# Altium integrated library TI Data Converters Analog to Digital Converter.IntLib: 2197 symbols (part 76 of 168)
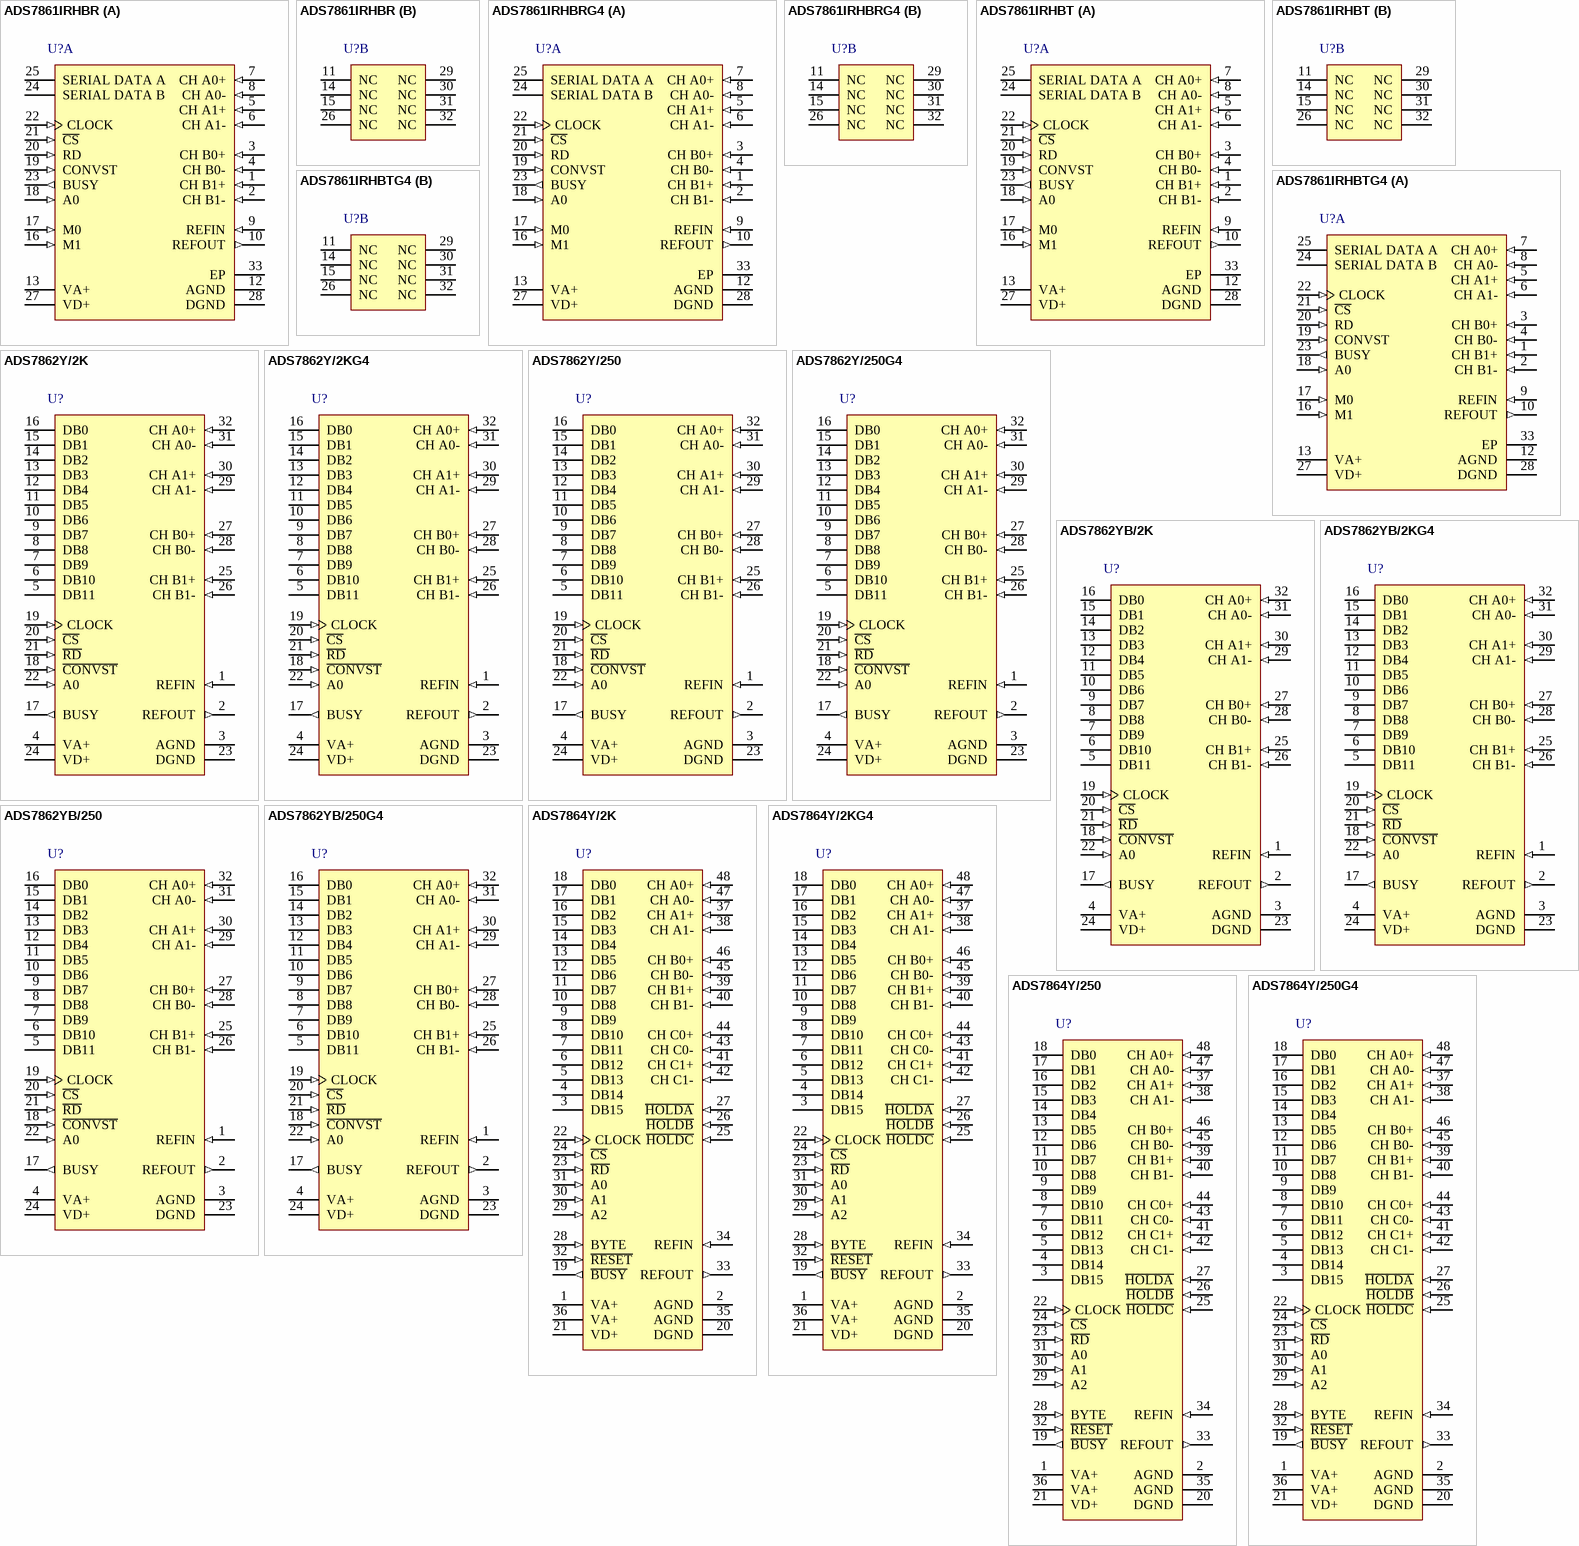
[diagram p201: symbols ADS7861IRHBR to ADS7864Y/250G4]

## ADS7861IRHBT
designator U?
Dual, 500 kHz, 12-Bit, 4 Channel, Simultaneous Sampling ADC, -40 to 125 degC, 32-pin QFN (RHB32), Green (RoHS & no Sb/Br); Manufacturer: Texas Instruments; PartNumber: ADS7861IRHBT; # Input Channels: 4; Analog Voltage AV/DD(Max)(V): 5.25; Analog Voltage AV/DD(Min)(V): 4.75; Architecture: SAR; INL(Max)(+/-LSB): 2; Interface: Serial SPI; Resolution(Bits): 12; Sample Rate (max)(SPS): 500k; SFDR(dB): 71; SINAD(dB): 70; SubFamily: Precision ADC (<=10MSPS); DatasheetVersion: SBAS110D; PackageVersion: 4204326/D, 06/2011; PackageReference: RHB32-3450X3450TP; PackageDescription: 32-Pin Plastic Flat Pack, Body 5 x 5 mm, Pitch 0.5 mm; Supplier 1: Digi-Key; Supplier Part Number 1: ADS7861EB/2K5G4-ND; Supplier 2: Newark; Supplier Part Number 2: 73K7090; Supplier 3: Mouser; Supplier Part Number 3: 595-ADS7861EB/2K5G4; Digital Supply(Max)(V): 5.25; Digital Supply(Min)(V): 4.75; Eco-Plan: Green (RoHS & no Sb/Br); Mounting Technology: Surface Mount; Code_JEDEC: MO-220; ComponentLink1Description: Manufacturer URL; ComponentLink1URL: http://www.ti.com/; ComponentLink2Description: Datasheet; ComponentLink2URL: http://www.ti.com/general/docs/lit/getliterature.tsp?genericPartNumber=ADS7861&fileType=pdf; ComponentLink3Description: Package Specification; ComponentLink3URL: http://www.ti.com/lit/ml/mpqf130c/mpqf130c.pdf
footprint TI-RHB32-3450X3450TP_V (QFN, 32-Leads, Body 5x5mm, Pitch 0.5mm, Thermal Pad 3.45x3.45mm)
part A pins: 1 CH B1+ (in) "Noninverting Input Channel B1", 2 CH B1- (in) "Inverting Input Channel B1", 3 CH B0+ (in) "Noninverting Input Channel B0", 4 CH B0- (in) "Inverting Input Channel B0", 5 CH A1+ (in) "Noninverting Input Channel A1", 6 CH A1- (in) "Inverting Input Channel A1", 7 CH A0+ (in) "Noninverting Input Channel A0", 8 CH A0- (in) "Inverting Input Channel A0", 9 REFIN (in) "Reference Input", 10 REFOUT (out) "2.5V Reference Output", 12 AGND (power) "Analog Ground. Connect directly to digital ground (pin 1).", 13 VA+ (power) "Analog Power Supply, +5VDC. Decouple to analog ground with a 0.1uF ceramic capacitor and a 0.1uF tantalum capacitor.", 16 M1 (in) "Selects between the Serial Outputs. When M1 is LOW, both Serial Output A and Serial Output B are selected for data transfer. When M1 is HIGH, Serial output A is configured for both Channel A data and Channel B data; Serial (See Datasheet)", 17 M0 (in) "Selects between two-channel and four-channel operation. When M0 is LOW, two-channel operation is selected and operates in conjunction with A0. When A0 is HIGH, Channel A1 and Channel B1 are being converted. When A0 is LOW, (See Datasheet)", 18 A0 (in) "A0 operates in conjunction with M0. With M0 LOW and A0 HIGH, Channel A1 and Channel B1 are converted. With M0 LOW and A0 LOW, Channel A0 and Channel B0 are converted.", 19 CONVST (in) "Convert Start. When CONVST switches from LOW to HIGH, the device switches from the sample to hold mode, independent of the status of the external clock.", 20 RD (in) "Synchronization Pulse for the Serial Output.", 21 ~{CS} (in) "Chip Select. When LOW, the Serial Output A and Serial Output B outputs are active; when HIGH, the serial outputs are tri-stated.", 22 CLOCK (in) "An external CMOS-compatible clock can be applied to the CLOCK input to synchronize the conversion process to an external source. The CLOCK pin controls the sampling rate by the equation: CLOCK = 16 • fSAMPLE.", 23 BUSY (out) "BUSY goes HIGH during a conversion and returns LOW after the third LSB has been transmitted on either the Serial A or Serial B output pin.", 24 SERIAL DATA B (hiz) "The Serial Output data word is comprised of channel information and 12 bits of data. In operation, data is valid on the falling edge of DCLOCK for 16 edges after the rising edge of RD.", 25 SERIAL DATA A (hiz) "The Serial Output data word is comprised of channel information and 12 bits of data. In operation, data is valid on the falling edge of DCLOCK for 16 edges after the rising edge of RD. When M1 is HIGH, both Channel A data (See Datasheet)", 27 VD+ (power) "Digital Power Supply, +5VDC. Connect directly to pin 13. Must be =< +VA.", 28 DGND (power) "Digital I/O Ground. Connect directly to analog ground (pin 12).", 33 EP (power) "The thermal pad is internally connected to the substrate. This pad can be connected to the analog ground or left floating. Keep the thermal pad separate from the digital ground, if possible."
part B pins: 11 NC "Not Connected", 14 NC "Not Connected", 15 NC "Not Connected", 26 NC "Not Connected", 29 NC "Not Connected", 30 NC "Not Connected", 31 NC "Not Connected", 32 NC "Not Connected"

## ADS7861IRHBTG4
designator U?
Dual, 500 kHz, 12-Bit, 4 Channel, Simultaneous Sampling ADC, -40 to 125 degC, 32-pin QFN (RHB32), Green (RoHS & no Sb/Br); Manufacturer: Texas Instruments; PartNumber: ADS7861IRHBTG4; # Input Channels: 4; Analog Voltage AV/DD(Max)(V): 5.25; Analog Voltage AV/DD(Min)(V): 4.75; Architecture: SAR; INL(Max)(+/-LSB): 2; Interface: Serial SPI; Resolution(Bits): 12; Sample Rate (max)(SPS): 500k; SFDR(dB): 71; SINAD(dB): 70; SubFamily: Precision ADC (<=10MSPS); DatasheetVersion: SBAS110D; PackageVersion: 4204326/D, 06/2011; PackageReference: RHB32-3450X3450TP; PackageDescription: 32-Pin Plastic Flat Pack, Body 5 x 5 mm, Pitch 0.5 mm; Supplier 1: Digi-Key; Supplier Part Number 1: ADS7861EBG4-ND; Supplier 2: Newark; Supplier Part Number 2: 85K0084; Supplier 3: Mouser; Supplier Part Number 3: 595-ADS7861EBG4; Digital Supply(Max)(V): 5.25; Digital Supply(Min)(V): 4.75; Eco-Plan: Green (RoHS & no Sb/Br); Mounting Technology: Surface Mount; Code_JEDEC: MO-220; ComponentLink1Description: Manufacturer URL; ComponentLink1URL: http://www.ti.com/; ComponentLink2Description: Datasheet; ComponentLink2URL: http://www.ti.com/general/docs/lit/getliterature.tsp?genericPartNumber=ADS7861&fileType=pdf; ComponentLink3Description: Package Specification; ComponentLink3URL: http://www.ti.com/lit/ml/mpqf130c/mpqf130c.pdf
footprint TI-RHB32-3450X3450TP_V (QFN, 32-Leads, Body 5x5mm, Pitch 0.5mm, Thermal Pad 3.45x3.45mm)
part A pins: 1 CH B1+ (in) "Noninverting Input Channel B1", 2 CH B1- (in) "Inverting Input Channel B1", 3 CH B0+ (in) "Noninverting Input Channel B0", 4 CH B0- (in) "Inverting Input Channel B0", 5 CH A1+ (in) "Noninverting Input Channel A1", 6 CH A1- (in) "Inverting Input Channel A1", 7 CH A0+ (in) "Noninverting Input Channel A0", 8 CH A0- (in) "Inverting Input Channel A0", 9 REFIN (in) "Reference Input", 10 REFOUT (out) "2.5V Reference Output", 12 AGND (power) "Analog Ground. Connect directly to digital ground (pin 1).", 13 VA+ (power) "Analog Power Supply, +5VDC. Decouple to analog ground with a 0.1uF ceramic capacitor and a 0.1uF tantalum capacitor.", 16 M1 (in) "Selects between the Serial Outputs. When M1 is LOW, both Serial Output A and Serial Output B are selected for data transfer. When M1 is HIGH, Serial output A is configured for both Channel A data and Channel B data; Serial (See Datasheet)", 17 M0 (in) "Selects between two-channel and four-channel operation. When M0 is LOW, two-channel operation is selected and operates in conjunction with A0. When A0 is HIGH, Channel A1 and Channel B1 are being converted. When A0 is LOW, (See Datasheet)", 18 A0 (in) "A0 operates in conjunction with M0. With M0 LOW and A0 HIGH, Channel A1 and Channel B1 are converted. With M0 LOW and A0 LOW, Channel A0 and Channel B0 are converted.", 19 CONVST (in) "Convert Start. When CONVST switches from LOW to HIGH, the device switches from the sample to hold mode, independent of the status of the external clock.", 20 RD (in) "Synchronization Pulse for the Serial Output.", 21 ~{CS} (in) "Chip Select. When LOW, the Serial Output A and Serial Output B outputs are active; when HIGH, the serial outputs are tri-stated.", 22 CLOCK (in) "An external CMOS-compatible clock can be applied to the CLOCK input to synchronize the conversion process to an external source. The CLOCK pin controls the sampling rate by the equation: CLOCK = 16 • fSAMPLE.", 23 BUSY (out) "BUSY goes HIGH during a conversion and returns LOW after the third LSB has been transmitted on either the Serial A or Serial B output pin.", 24 SERIAL DATA B (hiz) "The Serial Output data word is comprised of channel information and 12 bits of data. In operation, data is valid on the falling edge of DCLOCK for 16 edges after the rising edge of RD.", 25 SERIAL DATA A (hiz) "The Serial Output data word is comprised of channel information and 12 bits of data. In operation, data is valid on the falling edge of DCLOCK for 16 edges after the rising edge of RD. When M1 is HIGH, both Channel A data (See Datasheet)", 27 VD+ (power) "Digital Power Supply, +5VDC. Connect directly to pin 13. Must be =< +VA.", 28 DGND (power) "Digital I/O Ground. Connect directly to analog ground (pin 12).", 33 EP (power) "The thermal pad is internally connected to the substrate. This pad can be connected to the analog ground or left floating. Keep the thermal pad separate from the digital ground, if possible."
part B pins: 11 NC "Not Connected", 14 NC "Not Connected", 15 NC "Not Connected", 26 NC "Not Connected", 29 NC "Not Connected", 30 NC "Not Connected", 31 NC "Not Connected", 32 NC "Not Connected"

## ADS7862Y/2K
designator U?
Dual, 500 kHz, 12-Bit, 4-Channel Simultaneous Sampling ADC, -40 to 85 degC, 32-pin QFP (PBS32), Green (RoHS & no Sb/Br); Manufacturer: Texas Instruments; PartNumber: ADS7862Y/2K; # Input Channels: 4; Analog Voltage AV/DD(Max)(V): 5.25; Analog Voltage AV/DD(Min)(V): 4.75; Architecture: SAR; INL(Max)(+/-LSB): 2; Interface: Parallel CMOS; Resolution(Bits): 12; Sample Rate (max)(SPS): 500K; SFDR(dB): 78; SINAD(dB): 71; SubFamily: Precision ADC (<=10MSPS); DatasheetVersion: SBAS101B; PackageVersion: 4087735/B, 07/2005; PackageReference: PBS32; PackageDescription: 32-Pin Plastic Flat Pack, Body 5 X 5 mm, Pitch 0.5 mm; Supplier 1: Digi-Key; Supplier Part Number 1: ADS7861EG4-ND; Supplier 2: Mouser; Supplier Part Number 2: 595-ADS7861EG4; Digital Supply(Max)(V): 5.25; Digital Supply(Min)(V): 4.75; Eco-Plan: Green (RoHS & no Sb/Br); SNR(dB): 71; Mounting Technology: Surface Mount; Code_JEDEC: MS-026; ComponentLink1Description: Manufacturer URL; ComponentLink1URL: http://www.ti.com/; ComponentLink2Description: Datasheet; ComponentLink2URL: http://www.ti.com/general/docs/lit/getliterature.tsp?genericPartNumber=ADS7862&fileType=pdf; ComponentLink3Description: Package Specification; ComponentLink3URL: http://www.ti.com/lit/ml/mpqf027a/mpqf027a.pdf
footprint TI-PBS32_N (QFP, 32-Leads, Body 5x5mm, Pitch 0.5mm, IPC Medium Density)
footprint TI-PBS32_L (QFP, 32-Leads, Body 5x5mm, Pitch 0.5mm, IPC High Density)
footprint TI-PBS32_M (QFP, 32-Leads, Body 5x5mm, Pitch 0.5mm, IPC Low Density)
pins: 1 REFIN (in) "Reference Input", 2 REFOUT (out) "+2.5V Reference Output. Connect directly to REFIN (pin 1) when using internal reference.", 3 AGND (power) "Analog Ground", 4 VA+ (power) "Analog Power Supply, +5VDC. Connect directly to digital power supply (pin 24). Decouple to analog ground with a 0.1uF ceramic capacitor and a 10uF tantalum capacitor.", 5 DB11 (hiz) "Data Bit 11, MSB", 6 DB10 (hiz) "Data Bit 10", 7 DB9 (hiz) "Data Bit 9", 8 DB8 (hiz) "Data Bit 8", 9 DB7 (hiz) "Data Bit 7", 10 DB6 (hiz) "Data Bit 6", 11 DB5 (hiz) "Data Bit 5", 12 DB4 (hiz) "Data Bit 4", 13 DB3 (hiz) "Data Bit 3", 14 DB2 (hiz) "Data Bit 2", 15 DB1 (hiz) "Data Bit 1", 16 DB0 (hiz) "Data Bit 0, LSB", 17 BUSY (out) "HIGH when a conversion is in progress.", 18 ~{CONVST} (in) "Convert Start", 19 CLOCK (in) "An external CMOS-compatible clock can be applied to the CLOCK input to synchronize the conversion process to an external source. The CLOCK pin controls the sampling rate by the equation: CLOCK 16 X fSAMPLE.", 20 ~{CS} (in) "Chip Select", 21 ~{RD} (in) "Synchronization pulse for the parallel output. During a Read operation, the first falling edge selects the A register and the second edge selects the B register, A0, then controls whether input 0 or input 1 is read.", 22 A0 (in) "On the falling edge of Convert Start, when A0 is LOW Channel A0 and Channel B0 are converted and when it is HIGH, Channel A1 and Channel B1 are converted. During a Read operation, the first falling edge selects the A (See Datasheet)", 23 DGND (power) "Digital Ground. Connect directly to analog ground (pin 3).", 24 VD+ (power) "Digital Power Supply, +5VDC", 25 CH B1+ (in) "Non-Inverting Input Channel B1", 26 CH B1- (in) "Inverting Input Channel B1", 27 CH B0+ (in) "Non-Inverting Input Channel B0", 28 CH B0- (in) "Inverting Input Channel B0", 29 CH A1- (in) "Inverting Input Channel A1", 30 CH A1+ (in) "Non-Inverting Input Channel A1", 31 CH A0- (in) "Inverting Input Channel A0", 32 CH A0+ (in) "Non-Inverting Input Channel A0"

## ADS7862Y/2KG4
designator U?
Dual, 500 kHz, 12-Bit, 4-Channel Simultaneous Sampling ADC, -40 to 85 degC, 32-pin QFP (PBS32), Green (RoHS & no Sb/Br); Manufacturer: Texas Instruments; PartNumber: ADS7862Y/2KG4; # Input Channels: 4; Analog Voltage AV/DD(Max)(V): 5.25; Analog Voltage AV/DD(Min)(V): 4.75; Architecture: SAR; INL(Max)(+/-LSB): 2; Interface: Parallel CMOS; Resolution(Bits): 12; Sample Rate (max)(SPS): 500K; SFDR(dB): 78; SINAD(dB): 71; SubFamily: Precision ADC (<=10MSPS); DatasheetVersion: SBAS101B; PackageVersion: 4087735/B, 07/2005; PackageReference: PBS32; PackageDescription: 32-Pin Plastic Flat Pack, Body 5 X 5 mm, Pitch 0.5 mm; Supplier 1: Digi-Key; Supplier Part Number 1: ADS7861IBRHBR-ND; Supplier 2: Mouser; Supplier Part Number 2: 595-ADS7861IBRHBR; Digital Supply(Max)(V): 5.25; Digital Supply(Min)(V): 4.75; Eco-Plan: Green (RoHS & no Sb/Br); SNR(dB): 71; Mounting Technology: Surface Mount; Code_JEDEC: MS-026; ComponentLink1Description: Manufacturer URL; ComponentLink1URL: http://www.ti.com/; ComponentLink2Description: Datasheet; ComponentLink2URL: http://www.ti.com/general/docs/lit/getliterature.tsp?genericPartNumber=ADS7862&fileType=pdf; ComponentLink3Description: Package Specification; ComponentLink3URL: http://www.ti.com/lit/ml/mpqf027a/mpqf027a.pdf
footprint TI-PBS32_N (QFP, 32-Leads, Body 5x5mm, Pitch 0.5mm, IPC Medium Density)
footprint TI-PBS32_L (QFP, 32-Leads, Body 5x5mm, Pitch 0.5mm, IPC High Density)
footprint TI-PBS32_M (QFP, 32-Leads, Body 5x5mm, Pitch 0.5mm, IPC Low Density)
pins: 1 REFIN (in) "Reference Input", 2 REFOUT (out) "+2.5V Reference Output. Connect directly to REFIN (pin 1) when using internal reference.", 3 AGND (power) "Analog Ground", 4 VA+ (power) "Analog Power Supply, +5VDC. Connect directly to digital power supply (pin 24). Decouple to analog ground with a 0.1uF ceramic capacitor and a 10uF tantalum capacitor.", 5 DB11 (hiz) "Data Bit 11, MSB", 6 DB10 (hiz) "Data Bit 10", 7 DB9 (hiz) "Data Bit 9", 8 DB8 (hiz) "Data Bit 8", 9 DB7 (hiz) "Data Bit 7", 10 DB6 (hiz) "Data Bit 6", 11 DB5 (hiz) "Data Bit 5", 12 DB4 (hiz) "Data Bit 4", 13 DB3 (hiz) "Data Bit 3", 14 DB2 (hiz) "Data Bit 2", 15 DB1 (hiz) "Data Bit 1", 16 DB0 (hiz) "Data Bit 0, LSB", 17 BUSY (out) "HIGH when a conversion is in progress.", 18 ~{CONVST} (in) "Convert Start", 19 CLOCK (in) "An external CMOS-compatible clock can be applied to the CLOCK input to synchronize the conversion process to an external source. The CLOCK pin controls the sampling rate by the equation: CLOCK 16 X fSAMPLE.", 20 ~{CS} (in) "Chip Select", 21 ~{RD} (in) "Synchronization pulse for the parallel output. During a Read operation, the first falling edge selects the A register and the second edge selects the B register, A0, then controls whether input 0 or input 1 is read.", 22 A0 (in) "On the falling edge of Convert Start, when A0 is LOW Channel A0 and Channel B0 are converted and when it is HIGH, Channel A1 and Channel B1 are converted. During a Read operation, the first falling edge selects the A (See Datasheet)", 23 DGND (power) "Digital Ground. Connect directly to analog ground (pin 3).", 24 VD+ (power) "Digital Power Supply, +5VDC", 25 CH B1+ (in) "Non-Inverting Input Channel B1", 26 CH B1- (in) "Inverting Input Channel B1", 27 CH B0+ (in) "Non-Inverting Input Channel B0", 28 CH B0- (in) "Inverting Input Channel B0", 29 CH A1- (in) "Inverting Input Channel A1", 30 CH A1+ (in) "Non-Inverting Input Channel A1", 31 CH A0- (in) "Inverting Input Channel A0", 32 CH A0+ (in) "Non-Inverting Input Channel A0"

## ADS7862Y/250
designator U?
Dual, 500 kHz, 12-Bit, 4-Channel Simultaneous Sampling ADC, -40 to 85 degC, 32-pin QFP (PBS32), Green (RoHS & no Sb/Br); Manufacturer: Texas Instruments; PartNumber: ADS7862Y/250; # Input Channels: 4; Analog Voltage AV/DD(Max)(V): 5.25; Analog Voltage AV/DD(Min)(V): 4.75; Architecture: SAR; INL(Max)(+/-LSB): 2; Interface: Parallel CMOS; Resolution(Bits): 12; Sample Rate (max)(SPS): 500K; SFDR(dB): 78; SINAD(dB): 71; SubFamily: Precision ADC (<=10MSPS); DatasheetVersion: SBAS101B; PackageVersion: 4087735/B, 07/2005; PackageReference: PBS32; PackageDescription: 32-Pin Plastic Flat Pack, Body 5 X 5 mm, Pitch 0.5 mm; Supplier 1: Digi-Key; Supplier Part Number 1: ADS7861IBRHBRG4-ND; Supplier 2: Mouser; Supplier Part Number 2: 595-ADS7861IBRHBRG4; Digital Supply(Max)(V): 5.25; Digital Supply(Min)(V): 4.75; Eco-Plan: Green (RoHS & no Sb/Br); SNR(dB): 71; Mounting Technology: Surface Mount; Code_JEDEC: MS-026; ComponentLink1Description: Manufacturer URL; ComponentLink1URL: http://www.ti.com/; ComponentLink2Description: Datasheet; ComponentLink2URL: http://www.ti.com/general/docs/lit/getliterature.tsp?genericPartNumber=ADS7862&fileType=pdf; ComponentLink3Description: Package Specification; ComponentLink3URL: http://www.ti.com/lit/ml/mpqf027a/mpqf027a.pdf
footprint TI-PBS32_N (QFP, 32-Leads, Body 5x5mm, Pitch 0.5mm, IPC Medium Density)
footprint TI-PBS32_L (QFP, 32-Leads, Body 5x5mm, Pitch 0.5mm, IPC High Density)
footprint TI-PBS32_M (QFP, 32-Leads, Body 5x5mm, Pitch 0.5mm, IPC Low Density)
pins: 1 REFIN (in) "Reference Input", 2 REFOUT (out) "+2.5V Reference Output. Connect directly to REFIN (pin 1) when using internal reference.", 3 AGND (power) "Analog Ground", 4 VA+ (power) "Analog Power Supply, +5VDC. Connect directly to digital power supply (pin 24). Decouple to analog ground with a 0.1uF ceramic capacitor and a 10uF tantalum capacitor.", 5 DB11 (hiz) "Data Bit 11, MSB", 6 DB10 (hiz) "Data Bit 10", 7 DB9 (hiz) "Data Bit 9", 8 DB8 (hiz) "Data Bit 8", 9 DB7 (hiz) "Data Bit 7", 10 DB6 (hiz) "Data Bit 6", 11 DB5 (hiz) "Data Bit 5", 12 DB4 (hiz) "Data Bit 4", 13 DB3 (hiz) "Data Bit 3", 14 DB2 (hiz) "Data Bit 2", 15 DB1 (hiz) "Data Bit 1", 16 DB0 (hiz) "Data Bit 0, LSB", 17 BUSY (out) "HIGH when a conversion is in progress.", 18 ~{CONVST} (in) "Convert Start", 19 CLOCK (in) "An external CMOS-compatible clock can be applied to the CLOCK input to synchronize the conversion process to an external source. The CLOCK pin controls the sampling rate by the equation: CLOCK 16 X fSAMPLE.", 20 ~{CS} (in) "Chip Select", 21 ~{RD} (in) "Synchronization pulse for the parallel output. During a Read operation, the first falling edge selects the A register and the second edge selects the B register, A0, then controls whether input 0 or input 1 is read.", 22 A0 (in) "On the falling edge of Convert Start, when A0 is LOW Channel A0 and Channel B0 are converted and when it is HIGH, Channel A1 and Channel B1 are converted. During a Read operation, the first falling edge selects the A (See Datasheet)", 23 DGND (power) "Digital Ground. Connect directly to analog ground (pin 3).", 24 VD+ (power) "Digital Power Supply, +5VDC", 25 CH B1+ (in) "Non-Inverting Input Channel B1", 26 CH B1- (in) "Inverting Input Channel B1", 27 CH B0+ (in) "Non-Inverting Input Channel B0", 28 CH B0- (in) "Inverting Input Channel B0", 29 CH A1- (in) "Inverting Input Channel A1", 30 CH A1+ (in) "Non-Inverting Input Channel A1", 31 CH A0- (in) "Inverting Input Channel A0", 32 CH A0+ (in) "Non-Inverting Input Channel A0"

## ADS7862Y/250G4
designator U?
Dual, 500 kHz, 12-Bit, 4-Channel Simultaneous Sampling ADC, -40 to 85 degC, 32-pin QFP (PBS32), Green (RoHS & no Sb/Br); Manufacturer: Texas Instruments; PartNumber: ADS7862Y/250G4; # Input Channels: 4; Analog Voltage AV/DD(Max)(V): 5.25; Analog Voltage AV/DD(Min)(V): 4.75; Architecture: SAR; INL(Max)(+/-LSB): 2; Interface: Parallel CMOS; Resolution(Bits): 12; Sample Rate (max)(SPS): 500K; SFDR(dB): 78; SINAD(dB): 71; SubFamily: Precision ADC (<=10MSPS); DatasheetVersion: SBAS101B; PackageVersion: 4087735/B, 07/2005; PackageReference: PBS32; PackageDescription: 32-Pin Plastic Flat Pack, Body 5 X 5 mm, Pitch 0.5 mm; Supplier 1: Digi-Key; Supplier Part Number 1: 296-19570-2-ND; Supplier 2: Digi-Key; Supplier Part Number 2: 296-19570-1-ND; Supplier 3: Digi-Key; Supplier Part Number 3: 296-19570-6-ND; Supplier 4: Newark; Supplier Part Number 4: 81K0047; Supplier 5: Mouser; Supplier Part Number 5: 595-ADS7861IBRHBT; Digital Supply(Max)(V): 5.25; Digital Supply(Min)(V): 4.75; Eco-Plan: Green (RoHS & no Sb/Br); SNR(dB): 71; Mounting Technology: Surface Mount; Code_JEDEC: MS-026; ComponentLink1Description: Manufacturer URL; ComponentLink1URL: http://www.ti.com/; ComponentLink2Description: Datasheet; ComponentLink2URL: http://www.ti.com/general/docs/lit/getliterature.tsp?genericPartNumber=ADS7862&fileType=pdf; ComponentLink3Description: Package Specification; ComponentLink3URL: http://www.ti.com/lit/ml/mpqf027a/mpqf027a.pdf
footprint TI-PBS32_N (QFP, 32-Leads, Body 5x5mm, Pitch 0.5mm, IPC Medium Density)
footprint TI-PBS32_L (QFP, 32-Leads, Body 5x5mm, Pitch 0.5mm, IPC High Density)
footprint TI-PBS32_M (QFP, 32-Leads, Body 5x5mm, Pitch 0.5mm, IPC Low Density)
pins: 1 REFIN (in) "Reference Input", 2 REFOUT (out) "+2.5V Reference Output. Connect directly to REFIN (pin 1) when using internal reference.", 3 AGND (power) "Analog Ground", 4 VA+ (power) "Analog Power Supply, +5VDC. Connect directly to digital power supply (pin 24). Decouple to analog ground with a 0.1uF ceramic capacitor and a 10uF tantalum capacitor.", 5 DB11 (hiz) "Data Bit 11, MSB", 6 DB10 (hiz) "Data Bit 10", 7 DB9 (hiz) "Data Bit 9", 8 DB8 (hiz) "Data Bit 8", 9 DB7 (hiz) "Data Bit 7", 10 DB6 (hiz) "Data Bit 6", 11 DB5 (hiz) "Data Bit 5", 12 DB4 (hiz) "Data Bit 4", 13 DB3 (hiz) "Data Bit 3", 14 DB2 (hiz) "Data Bit 2", 15 DB1 (hiz) "Data Bit 1", 16 DB0 (hiz) "Data Bit 0, LSB", 17 BUSY (out) "HIGH when a conversion is in progress.", 18 ~{CONVST} (in) "Convert Start", 19 CLOCK (in) "An external CMOS-compatible clock can be applied to the CLOCK input to synchronize the conversion process to an external source. The CLOCK pin controls the sampling rate by the equation: CLOCK 16 X fSAMPLE.", 20 ~{CS} (in) "Chip Select", 21 ~{RD} (in) "Synchronization pulse for the parallel output. During a Read operation, the first falling edge selects the A register and the second edge selects the B register, A0, then controls whether input 0 or input 1 is read.", 22 A0 (in) "On the falling edge of Convert Start, when A0 is LOW Channel A0 and Channel B0 are converted and when it is HIGH, Channel A1 and Channel B1 are converted. During a Read operation, the first falling edge selects the A (See Datasheet)", 23 DGND (power) "Digital Ground. Connect directly to analog ground (pin 3).", 24 VD+ (power) "Digital Power Supply, +5VDC", 25 CH B1+ (in) "Non-Inverting Input Channel B1", 26 CH B1- (in) "Inverting Input Channel B1", 27 CH B0+ (in) "Non-Inverting Input Channel B0", 28 CH B0- (in) "Inverting Input Channel B0", 29 CH A1- (in) "Inverting Input Channel A1", 30 CH A1+ (in) "Non-Inverting Input Channel A1", 31 CH A0- (in) "Inverting Input Channel A0", 32 CH A0+ (in) "Non-Inverting Input Channel A0"

## ADS7862YB/2K
designator U?
Dual, 500 kHz, 12-Bit, 4-Channel Simultaneous Sampling ADC, -40 to 85 degC, 32-pin QFP (PBS32), Green (RoHS & no Sb/Br); Manufacturer: Texas Instruments; PartNumber: ADS7862YB/2K; # Input Channels: 4; Analog Voltage AV/DD(Max)(V): 5.25; Analog Voltage AV/DD(Min)(V): 4.75; Architecture: SAR; INL(Max)(+/-LSB): 1; Interface: Parallel CMOS; Resolution(Bits): 12; Sample Rate (max)(SPS): 500K; SFDR(dB): 78; SINAD(dB): 71; SubFamily: Precision ADC (<=10MSPS); DatasheetVersion: SBAS101B; PackageVersion: 4087735/B, 07/2005; PackageReference: PBS32; PackageDescription: 32-Pin Plastic Flat Pack, Body 5 X 5 mm, Pitch 0.5 mm; Supplier 1: Digi-Key; Supplier Part Number 1: ADS7861IBRHBTG4-ND; Supplier 2: Farnell; Supplier Part Number 2: 1329572; Supplier 3: Mouser; Supplier Part Number 3: 595-ADS7861IBRHBTG4; Digital Supply(Max)(V): 5.25; Digital Supply(Min)(V): 4.75; Eco-Plan: Green (RoHS & no Sb/Br); SNR(dB): 71; Mounting Technology: Surface Mount; Code_JEDEC: MS-026; ComponentLink1Description: Manufacturer URL; ComponentLink1URL: http://www.ti.com/; ComponentLink2Description: Datasheet; ComponentLink2URL: http://www.ti.com/general/docs/lit/getliterature.tsp?genericPartNumber=ADS7862&fileType=pdf; ComponentLink3Description: Package Specification; ComponentLink3URL: http://www.ti.com/lit/ml/mpqf027a/mpqf027a.pdf
footprint TI-PBS32_N (QFP, 32-Leads, Body 5x5mm, Pitch 0.5mm, IPC Medium Density)
footprint TI-PBS32_L (QFP, 32-Leads, Body 5x5mm, Pitch 0.5mm, IPC High Density)
footprint TI-PBS32_M (QFP, 32-Leads, Body 5x5mm, Pitch 0.5mm, IPC Low Density)
pins: 1 REFIN (in) "Reference Input", 2 REFOUT (out) "+2.5V Reference Output. Connect directly to REFIN (pin 1) when using internal reference.", 3 AGND (power) "Analog Ground", 4 VA+ (power) "Analog Power Supply, +5VDC. Connect directly to digital power supply (pin 24). Decouple to analog ground with a 0.1uF ceramic capacitor and a 10uF tantalum capacitor.", 5 DB11 (hiz) "Data Bit 11, MSB", 6 DB10 (hiz) "Data Bit 10", 7 DB9 (hiz) "Data Bit 9", 8 DB8 (hiz) "Data Bit 8", 9 DB7 (hiz) "Data Bit 7", 10 DB6 (hiz) "Data Bit 6", 11 DB5 (hiz) "Data Bit 5", 12 DB4 (hiz) "Data Bit 4", 13 DB3 (hiz) "Data Bit 3", 14 DB2 (hiz) "Data Bit 2", 15 DB1 (hiz) "Data Bit 1", 16 DB0 (hiz) "Data Bit 0, LSB", 17 BUSY (out) "HIGH when a conversion is in progress.", 18 ~{CONVST} (in) "Convert Start", 19 CLOCK (in) "An external CMOS-compatible clock can be applied to the CLOCK input to synchronize the conversion process to an external source. The CLOCK pin controls the sampling rate by the equation: CLOCK 16 X fSAMPLE.", 20 ~{CS} (in) "Chip Select", 21 ~{RD} (in) "Synchronization pulse for the parallel output. During a Read operation, the first falling edge selects the A register and the second edge selects the B register, A0, then controls whether input 0 or input 1 is read.", 22 A0 (in) "On the falling edge of Convert Start, when A0 is LOW Channel A0 and Channel B0 are converted and when it is HIGH, Channel A1 and Channel B1 are converted. During a Read operation, the first falling edge selects the A (See Datasheet)", 23 DGND (power) "Digital Ground. Connect directly to analog ground (pin 3).", 24 VD+ (power) "Digital Power Supply, +5VDC", 25 CH B1+ (in) "Non-Inverting Input Channel B1", 26 CH B1- (in) "Inverting Input Channel B1", 27 CH B0+ (in) "Non-Inverting Input Channel B0", 28 CH B0- (in) "Inverting Input Channel B0", 29 CH A1- (in) "Inverting Input Channel A1", 30 CH A1+ (in) "Non-Inverting Input Channel A1", 31 CH A0- (in) "Inverting Input Channel A0", 32 CH A0+ (in) "Non-Inverting Input Channel A0"

## ADS7862YB/2KG4
designator U?
Dual, 500 kHz, 12-Bit, 4-Channel Simultaneous Sampling ADC, -40 to 85 degC, 32-pin QFP (PBS32), Green (RoHS & no Sb/Br); Manufacturer: Texas Instruments; PartNumber: ADS7862YB/2KG4; # Input Channels: 4; Analog Voltage AV/DD(Max)(V): 5.25; Analog Voltage AV/DD(Min)(V): 4.75; Architecture: SAR; INL(Max)(+/-LSB): 1; Interface: Parallel CMOS; Resolution(Bits): 12; Sample Rate (max)(SPS): 500K; SFDR(dB): 78; SINAD(dB): 71; SubFamily: Precision ADC (<=10MSPS); DatasheetVersion: SBAS101B; PackageVersion: 4087735/B, 07/2005; PackageReference: PBS32; PackageDescription: 32-Pin Plastic Flat Pack, Body 5 X 5 mm, Pitch 0.5 mm; Supplier 1: Digi-Key; Supplier Part Number 1: ADS7861IRHBR-ND; Supplier 2: Mouser; Supplier Part Number 2: 595-ADS7861IRHBR; Digital Supply(Max)(V): 5.25; Digital Supply(Min)(V): 4.75; Eco-Plan: Green (RoHS & no Sb/Br); SNR(dB): 71; Mounting Technology: Surface Mount; Code_JEDEC: MS-026; ComponentLink1Description: Manufacturer URL; ComponentLink1URL: http://www.ti.com/; ComponentLink2Description: Datasheet; ComponentLink2URL: http://www.ti.com/general/docs/lit/getliterature.tsp?genericPartNumber=ADS7862&fileType=pdf; ComponentLink3Description: Package Specification; ComponentLink3URL: http://www.ti.com/lit/ml/mpqf027a/mpqf027a.pdf
footprint TI-PBS32_N (QFP, 32-Leads, Body 5x5mm, Pitch 0.5mm, IPC Medium Density)
footprint TI-PBS32_L (QFP, 32-Leads, Body 5x5mm, Pitch 0.5mm, IPC High Density)
footprint TI-PBS32_M (QFP, 32-Leads, Body 5x5mm, Pitch 0.5mm, IPC Low Density)
pins: 1 REFIN (in) "Reference Input", 2 REFOUT (out) "+2.5V Reference Output. Connect directly to REFIN (pin 1) when using internal reference.", 3 AGND (power) "Analog Ground", 4 VA+ (power) "Analog Power Supply, +5VDC. Connect directly to digital power supply (pin 24). Decouple to analog ground with a 0.1uF ceramic capacitor and a 10uF tantalum capacitor.", 5 DB11 (hiz) "Data Bit 11, MSB", 6 DB10 (hiz) "Data Bit 10", 7 DB9 (hiz) "Data Bit 9", 8 DB8 (hiz) "Data Bit 8", 9 DB7 (hiz) "Data Bit 7", 10 DB6 (hiz) "Data Bit 6", 11 DB5 (hiz) "Data Bit 5", 12 DB4 (hiz) "Data Bit 4", 13 DB3 (hiz) "Data Bit 3", 14 DB2 (hiz) "Data Bit 2", 15 DB1 (hiz) "Data Bit 1", 16 DB0 (hiz) "Data Bit 0, LSB", 17 BUSY (out) "HIGH when a conversion is in progress.", 18 ~{CONVST} (in) "Convert Start", 19 CLOCK (in) "An external CMOS-compatible clock can be applied to the CLOCK input to synchronize the conversion process to an external source. The CLOCK pin controls the sampling rate by the equation: CLOCK 16 X fSAMPLE.", 20 ~{CS} (in) "Chip Select", 21 ~{RD} (in) "Synchronization pulse for the parallel output. During a Read operation, the first falling edge selects the A register and the second edge selects the B register, A0, then controls whether input 0 or input 1 is read.", 22 A0 (in) "On the falling edge of Convert Start, when A0 is LOW Channel A0 and Channel B0 are converted and when it is HIGH, Channel A1 and Channel B1 are converted. During a Read operation, the first falling edge selects the A (See Datasheet)", 23 DGND (power) "Digital Ground. Connect directly to analog ground (pin 3).", 24 VD+ (power) "Digital Power Supply, +5VDC", 25 CH B1+ (in) "Non-Inverting Input Channel B1", 26 CH B1- (in) "Inverting Input Channel B1", 27 CH B0+ (in) "Non-Inverting Input Channel B0", 28 CH B0- (in) "Inverting Input Channel B0", 29 CH A1- (in) "Inverting Input Channel A1", 30 CH A1+ (in) "Non-Inverting Input Channel A1", 31 CH A0- (in) "Inverting Input Channel A0", 32 CH A0+ (in) "Non-Inverting Input Channel A0"

## ADS7862YB/250
designator U?
Dual, 500 kHz, 12-Bit, 4-Channel Simultaneous Sampling ADC, -40 to 85 degC, 32-pin QFP (PBS32), Green (RoHS & no Sb/Br); Manufacturer: Texas Instruments; PartNumber: ADS7862YB/250; # Input Channels: 4; Analog Voltage AV/DD(Max)(V): 5.25; Analog Voltage AV/DD(Min)(V): 4.75; Architecture: SAR; INL(Max)(+/-LSB): 1; Interface: Parallel CMOS; Resolution(Bits): 12; Sample Rate (max)(SPS): 500K; SFDR(dB): 78; SINAD(dB): 71; SubFamily: Precision ADC (<=10MSPS); DatasheetVersion: SBAS101B; PackageVersion: 4087735/B, 07/2005; PackageReference: PBS32; PackageDescription: 32-Pin Plastic Flat Pack, Body 5 X 5 mm, Pitch 0.5 mm; Supplier 1: Digi-Key; Supplier Part Number 1: ADS7861IRHBRG4-ND; Supplier 2: Mouser; Supplier Part Number 2: 595-ADS7861IRHBRG4; Digital Supply(Max)(V): 5.25; Digital Supply(Min)(V): 4.75; Eco-Plan: Green (RoHS & no Sb/Br); SNR(dB): 71; Mounting Technology: Surface Mount; Code_JEDEC: MS-026; ComponentLink1Description: Manufacturer URL; ComponentLink1URL: http://www.ti.com/; ComponentLink2Description: Datasheet; ComponentLink2URL: http://www.ti.com/general/docs/lit/getliterature.tsp?genericPartNumber=ADS7862&fileType=pdf; ComponentLink3Description: Package Specification; ComponentLink3URL: http://www.ti.com/lit/ml/mpqf027a/mpqf027a.pdf
footprint TI-PBS32_N (QFP, 32-Leads, Body 5x5mm, Pitch 0.5mm, IPC Medium Density)
footprint TI-PBS32_L (QFP, 32-Leads, Body 5x5mm, Pitch 0.5mm, IPC High Density)
footprint TI-PBS32_M (QFP, 32-Leads, Body 5x5mm, Pitch 0.5mm, IPC Low Density)
pins: 1 REFIN (in) "Reference Input", 2 REFOUT (out) "+2.5V Reference Output. Connect directly to REFIN (pin 1) when using internal reference.", 3 AGND (power) "Analog Ground", 4 VA+ (power) "Analog Power Supply, +5VDC. Connect directly to digital power supply (pin 24). Decouple to analog ground with a 0.1uF ceramic capacitor and a 10uF tantalum capacitor.", 5 DB11 (hiz) "Data Bit 11, MSB", 6 DB10 (hiz) "Data Bit 10", 7 DB9 (hiz) "Data Bit 9", 8 DB8 (hiz) "Data Bit 8", 9 DB7 (hiz) "Data Bit 7", 10 DB6 (hiz) "Data Bit 6", 11 DB5 (hiz) "Data Bit 5", 12 DB4 (hiz) "Data Bit 4", 13 DB3 (hiz) "Data Bit 3", 14 DB2 (hiz) "Data Bit 2", 15 DB1 (hiz) "Data Bit 1", 16 DB0 (hiz) "Data Bit 0, LSB", 17 BUSY (out) "HIGH when a conversion is in progress.", 18 ~{CONVST} (in) "Convert Start", 19 CLOCK (in) "An external CMOS-compatible clock can be applied to the CLOCK input to synchronize the conversion process to an external source. The CLOCK pin controls the sampling rate by the equation: CLOCK 16 X fSAMPLE.", 20 ~{CS} (in) "Chip Select", 21 ~{RD} (in) "Synchronization pulse for the parallel output. During a Read operation, the first falling edge selects the A register and the second edge selects the B register, A0, then controls whether input 0 or input 1 is read.", 22 A0 (in) "On the falling edge of Convert Start, when A0 is LOW Channel A0 and Channel B0 are converted and when it is HIGH, Channel A1 and Channel B1 are converted. During a Read operation, the first falling edge selects the A (See Datasheet)", 23 DGND (power) "Digital Ground. Connect directly to analog ground (pin 3).", 24 VD+ (power) "Digital Power Supply, +5VDC", 25 CH B1+ (in) "Non-Inverting Input Channel B1", 26 CH B1- (in) "Inverting Input Channel B1", 27 CH B0+ (in) "Non-Inverting Input Channel B0", 28 CH B0- (in) "Inverting Input Channel B0", 29 CH A1- (in) "Inverting Input Channel A1", 30 CH A1+ (in) "Non-Inverting Input Channel A1", 31 CH A0- (in) "Inverting Input Channel A0", 32 CH A0+ (in) "Non-Inverting Input Channel A0"

## ADS7862YB/250G4
designator U?
Dual, 500 kHz, 12-Bit, 4-Channel Simultaneous Sampling ADC, -40 to 85 degC, 32-pin QFP (PBS32), Green (RoHS & no Sb/Br); Manufacturer: Texas Instruments; PartNumber: ADS7862YB/250G4; # Input Channels: 4; Analog Voltage AV/DD(Max)(V): 5.25; Analog Voltage AV/DD(Min)(V): 4.75; Architecture: SAR; INL(Max)(+/-LSB): 1; Interface: Parallel CMOS; Resolution(Bits): 12; Sample Rate (max)(SPS): 500K; SFDR(dB): 78; SINAD(dB): 71; SubFamily: Precision ADC (<=10MSPS); DatasheetVersion: SBAS101B; PackageVersion: 4087735/B, 07/2005; PackageReference: PBS32; PackageDescription: 32-Pin Plastic Flat Pack, Body 5 X 5 mm, Pitch 0.5 mm; Supplier 1: Digi-Key; Supplier Part Number 1: 296-19571-2-ND; Supplier 2: Digi-Key; Supplier Part Number 2: 296-19571-1-ND; Supplier 3: Digi-Key; Supplier Part Number 3: 296-19571-6-ND; Supplier 4: Newark; Supplier Part Number 4: 81K0049; Supplier 5: Mouser; Supplier Part Number 5: 595-ADS7861IRHBT; Digital Supply(Max)(V): 5.25; Digital Supply(Min)(V): 4.75; Eco-Plan: Green (RoHS & no Sb/Br); SNR(dB): 71; Mounting Technology: Surface Mount; Code_JEDEC: MS-026; ComponentLink1Description: Manufacturer URL; ComponentLink1URL: http://www.ti.com/; ComponentLink2Description: Datasheet; ComponentLink2URL: http://www.ti.com/general/docs/lit/getliterature.tsp?genericPartNumber=ADS7862&fileType=pdf; ComponentLink3Description: Package Specification; ComponentLink3URL: http://www.ti.com/lit/ml/mpqf027a/mpqf027a.pdf
footprint TI-PBS32_N (QFP, 32-Leads, Body 5x5mm, Pitch 0.5mm, IPC Medium Density)
footprint TI-PBS32_L (QFP, 32-Leads, Body 5x5mm, Pitch 0.5mm, IPC High Density)
footprint TI-PBS32_M (QFP, 32-Leads, Body 5x5mm, Pitch 0.5mm, IPC Low Density)
pins: 1 REFIN (in) "Reference Input", 2 REFOUT (out) "+2.5V Reference Output. Connect directly to REFIN (pin 1) when using internal reference.", 3 AGND (power) "Analog Ground", 4 VA+ (power) "Analog Power Supply, +5VDC. Connect directly to digital power supply (pin 24). Decouple to analog ground with a 0.1uF ceramic capacitor and a 10uF tantalum capacitor.", 5 DB11 (hiz) "Data Bit 11, MSB", 6 DB10 (hiz) "Data Bit 10", 7 DB9 (hiz) "Data Bit 9", 8 DB8 (hiz) "Data Bit 8", 9 DB7 (hiz) "Data Bit 7", 10 DB6 (hiz) "Data Bit 6", 11 DB5 (hiz) "Data Bit 5", 12 DB4 (hiz) "Data Bit 4", 13 DB3 (hiz) "Data Bit 3", 14 DB2 (hiz) "Data Bit 2", 15 DB1 (hiz) "Data Bit 1", 16 DB0 (hiz) "Data Bit 0, LSB", 17 BUSY (out) "HIGH when a conversion is in progress.", 18 ~{CONVST} (in) "Convert Start", 19 CLOCK (in) "An external CMOS-compatible clock can be applied to the CLOCK input to synchronize the conversion process to an external source. The CLOCK pin controls the sampling rate by the equation: CLOCK 16 X fSAMPLE.", 20 ~{CS} (in) "Chip Select", 21 ~{RD} (in) "Synchronization pulse for the parallel output. During a Read operation, the first falling edge selects the A register and the second edge selects the B register, A0, then controls whether input 0 or input 1 is read.", 22 A0 (in) "On the falling edge of Convert Start, when A0 is LOW Channel A0 and Channel B0 are converted and when it is HIGH, Channel A1 and Channel B1 are converted. During a Read operation, the first falling edge selects the A (See Datasheet)", 23 DGND (power) "Digital Ground. Connect directly to analog ground (pin 3).", 24 VD+ (power) "Digital Power Supply, +5VDC", 25 CH B1+ (in) "Non-Inverting Input Channel B1", 26 CH B1- (in) "Inverting Input Channel B1", 27 CH B0+ (in) "Non-Inverting Input Channel B0", 28 CH B0- (in) "Inverting Input Channel B0", 29 CH A1- (in) "Inverting Input Channel A1", 30 CH A1+ (in) "Non-Inverting Input Channel A1", 31 CH A0- (in) "Inverting Input Channel A0", 32 CH A0+ (in) "Non-Inverting Input Channel A0"

## ADS7864Y/2K
designator U?
500 kHz, 12-Bit, 6-Channel Simultaneous Sampling ADC, -40 to 85 degC, 48-pin QFP (PFB48), Green (RoHS & no Sb/Br); Manufacturer: Texas Instruments; PartNumber: ADS7864Y/2K; # Input Channels: 6; Analog Voltage AV/DD(Max)(V): 5.25; Analog Voltage AV/DD(Min)(V): 4.75; Architecture: SAR; INL(Max)(+/-LSB): 2; Interface: Parallel CMOS; Resolution(Bits): 12; Sample Rate (max)(SPS): 500k; SFDR(dB): 78; SINAD(dB): 71; SubFamily: Precision ADC (<=10MSPS); DatasheetVersion: SBAS141A; PackageVersion: 4073176/B, 10/1996; PackageReference: PFB48; PackageDescription: 48-Pin Plastic Flat Pack, Body 7 x 7 mm, Pitch 0.5 mm; Supplier 1: Digi-Key; Supplier Part Number 1: ADS7861IRHBTG4-ND; Supplier 2: Mouser; Supplier Part Number 2: 595-ADS7861IRHBTG4; Digital Supply(Max)(V): 5.25; Digital Supply(Min)(V): 4.75; Eco-Plan: Green (RoHS & no Sb/Br); Mounting Technology: Surface Mount; Code_JEDEC: MS-026; ComponentLink1Description: Manufacturer URL; ComponentLink1URL: http://www.ti.com/; ComponentLink2Description: Datasheet; ComponentLink2URL: http://www.ti.com/general/docs/lit/getliterature.tsp?genericPartNumber=ADS7864&fileType=pdf; ComponentLink3Description: Package Specification; ComponentLink3URL: http://www.ti.com/lit/ml/mtqf019a/mtqf019a.pdf
footprint TI-PFB48_N (QFP, 48-Leads, Body 7x7mm, Pitch 0.5mm, IPC Medium Density)
footprint TI-PFB48_L (QFP, 48-Leads, Body 7x7mm, Pitch 0.5mm, IPC High Density)
footprint TI-PFB48_M (QFP, 48-Leads, Body 7x7mm, Pitch 0.5mm, IPC Low Density)
pins: 1 VA+ (power) "Analog Power Supply. Normally +5V.", 2 AGND (power) "Analog Ground", 3 DB15 (hiz) "Data Valid Output: ‘1’ for data valid; ‘0’ for invalid data.", 4 DB14 (hiz) "Channel Address Output Pin (see Table 2)", 5 DB13 (hiz) "Channel Address Output Pin (see Table 2)", 6 DB12 (hiz) "Channel Address Output Pin (see Table 2)", 7 DB11 (hiz) "Data Bit 11 - MSB", 8 DB10 (hiz) "Data Bit 10", 9 DB9 (hiz) "Data Bit 9", 10 DB8 (hiz) "Data Bit 8", 11 DB7 (hiz) "Data Bit 7", 12 DB6 (hiz) "Data Bit 6", 13 DB5 (hiz) "Data Bit 5", 14 DB4 (hiz) "Data Bit 4", 15 DB3 (hiz) "Data Bit 3", 16 DB2 (hiz) "Data Bit 2", 17 DB1 (hiz) "Data Bit 1", 18 DB0 (hiz) "Data Bit 0 - LSB", 19 ~{BUSY} (out) "Low when a conversion is in progress.", 20 DGND (power) "Digital Ground", 21 VD+ (power) "Digital Power Supply, +5VDC", 22 CLOCK (in) "An external clock must be applied to the CLOCK input.", 23 ~{RD} (in) "RD Input. Enables the parallel output when used in conjunction with chip select.", 24 ~{CS} (in) "Chip Select", 25 ~{HOLDC} (in) "Places Channels C0 and C1 in hold mode.", 26 ~{HOLDB} (in) "Places Channels B0 and B1 in hold mode.", 27 ~{HOLDA} (in) "Places Channels A0 and A1 in hold mode.", 28 BYTE (in) "2 x 8 Output Capability. Active high.", 29 A2 (in) "A2 Address/Mode Select Pin (see Table 3).", 30 A1 (in) "A1 Address/Mode Select Pin (see Table 3).", 31 A0 (in) "A0 Address/Mode Select Pin (see Table 3).", 32 ~{RESET} (in) "Reset Pin", 33 REFOUT (out) "Reference Out", 34 REFIN (in) "Reference In", 35 AGND (power) "Analog Ground", 36 VA+ (power) "Analog Power Supply. Normally +5V.", 37 CH A1+ (in) "Noninverting Input Channel A1", 38 CH A1- (in) "Inverting Input Channel A1", 39 CH B1+ (in) "Noninverting Input Channel B1", 40 CH B1- (in) "Inverting Input Channel B1", 41 CH C1+ (in) "Noninverting Input Channel C1", 42 CH C1- (in) "Inverting Input Channel C1", 43 CH C0- (in) "Inverting Input Channel C0", 44 CH C0+ (in) "Noninverting Input Channel C0", 45 CH B0- (in) "Inverting Input Channel B0", 46 CH B0+ (in) "Noninverting Input Channel B0", 47 CH A0- (in) "Inverting Input Channel A0", 48 CH A0+ (in) "Noninverting Input Channel A0"

## ADS7864Y/2KG4
designator U?
500 kHz, 12-Bit, 6-Channel Simultaneous Sampling ADC, -40 to 85 degC, 48-pin QFP (PFB48), Green (RoHS & no Sb/Br); Manufacturer: Texas Instruments; PartNumber: ADS7864Y/2KG4; # Input Channels: 6; Analog Voltage AV/DD(Max)(V): 5.25; Analog Voltage AV/DD(Min)(V): 4.75; Architecture: SAR; INL(Max)(+/-LSB): 2; Interface: Parallel CMOS; Resolution(Bits): 12; Sample Rate (max)(SPS): 500k; SFDR(dB): 78; SINAD(dB): 71; SubFamily: Precision ADC (<=10MSPS); DatasheetVersion: SBAS141A; PackageVersion: 4073176/B, 10/1996; PackageReference: PFB48; PackageDescription: 48-Pin Plastic Flat Pack, Body 7 x 7 mm, Pitch 0.5 mm; Supplier 1: Digi-Key; Supplier Part Number 1: ADS7862YTR-ND; Supplier 2: Digi-Key; Supplier Part Number 2: ADS7862YCT-ND; Supplier 3: Digi-Key; Supplier Part Number 3: ADS7862YDKR-ND; Supplier 4: Newark; Supplier Part Number 4: 35C1564; Supplier 5: Mouser; Supplier Part Number 5: 595-ADS7862Y/250; Digital Supply(Max)(V): 5.25; Digital Supply(Min)(V): 4.75; Eco-Plan: Green (RoHS & no Sb/Br); Mounting Technology: Surface Mount; Code_JEDEC: MS-026; ComponentLink1Description: Manufacturer URL; ComponentLink1URL: http://www.ti.com/; ComponentLink2Description: Datasheet; ComponentLink2URL: http://www.ti.com/general/docs/lit/getliterature.tsp?genericPartNumber=ADS7864&fileType=pdf; ComponentLink3Description: Package Specification; ComponentLink3URL: http://www.ti.com/lit/ml/mtqf019a/mtqf019a.pdf
footprint TI-PFB48_N (QFP, 48-Leads, Body 7x7mm, Pitch 0.5mm, IPC Medium Density)
footprint TI-PFB48_L (QFP, 48-Leads, Body 7x7mm, Pitch 0.5mm, IPC High Density)
footprint TI-PFB48_M (QFP, 48-Leads, Body 7x7mm, Pitch 0.5mm, IPC Low Density)
pins: 1 VA+ (power) "Analog Power Supply. Normally +5V.", 2 AGND (power) "Analog Ground", 3 DB15 (hiz) "Data Valid Output: ‘1’ for data valid; ‘0’ for invalid data.", 4 DB14 (hiz) "Channel Address Output Pin (see Table 2)", 5 DB13 (hiz) "Channel Address Output Pin (see Table 2)", 6 DB12 (hiz) "Channel Address Output Pin (see Table 2)", 7 DB11 (hiz) "Data Bit 11 - MSB", 8 DB10 (hiz) "Data Bit 10", 9 DB9 (hiz) "Data Bit 9", 10 DB8 (hiz) "Data Bit 8", 11 DB7 (hiz) "Data Bit 7", 12 DB6 (hiz) "Data Bit 6", 13 DB5 (hiz) "Data Bit 5", 14 DB4 (hiz) "Data Bit 4", 15 DB3 (hiz) "Data Bit 3", 16 DB2 (hiz) "Data Bit 2", 17 DB1 (hiz) "Data Bit 1", 18 DB0 (hiz) "Data Bit 0 - LSB", 19 ~{BUSY} (out) "Low when a conversion is in progress.", 20 DGND (power) "Digital Ground", 21 VD+ (power) "Digital Power Supply, +5VDC", 22 CLOCK (in) "An external clock must be applied to the CLOCK input.", 23 ~{RD} (in) "RD Input. Enables the parallel output when used in conjunction with chip select.", 24 ~{CS} (in) "Chip Select", 25 ~{HOLDC} (in) "Places Channels C0 and C1 in hold mode.", 26 ~{HOLDB} (in) "Places Channels B0 and B1 in hold mode.", 27 ~{HOLDA} (in) "Places Channels A0 and A1 in hold mode.", 28 BYTE (in) "2 x 8 Output Capability. Active high.", 29 A2 (in) "A2 Address/Mode Select Pin (see Table 3).", 30 A1 (in) "A1 Address/Mode Select Pin (see Table 3).", 31 A0 (in) "A0 Address/Mode Select Pin (see Table 3).", 32 ~{RESET} (in) "Reset Pin", 33 REFOUT (out) "Reference Out", 34 REFIN (in) "Reference In", 35 AGND (power) "Analog Ground", 36 VA+ (power) "Analog Power Supply. Normally +5V.", 37 CH A1+ (in) "Noninverting Input Channel A1", 38 CH A1- (in) "Inverting Input Channel A1", 39 CH B1+ (in) "Noninverting Input Channel B1", 40 CH B1- (in) "Inverting Input Channel B1", 41 CH C1+ (in) "Noninverting Input Channel C1", 42 CH C1- (in) "Inverting Input Channel C1", 43 CH C0- (in) "Inverting Input Channel C0", 44 CH C0+ (in) "Noninverting Input Channel C0", 45 CH B0- (in) "Inverting Input Channel B0", 46 CH B0+ (in) "Noninverting Input Channel B0", 47 CH A0- (in) "Inverting Input Channel A0", 48 CH A0+ (in) "Noninverting Input Channel A0"

## ADS7864Y/250
designator U?
500 kHz, 12-Bit, 6-Channel Simultaneous Sampling ADC, -40 to 85 degC, 48-pin QFP (PFB48), Green (RoHS & no Sb/Br); Manufacturer: Texas Instruments; PartNumber: ADS7864Y/250; # Input Channels: 6; Analog Voltage AV/DD(Max)(V): 5.25; Analog Voltage AV/DD(Min)(V): 4.75; Architecture: SAR; INL(Max)(+/-LSB): 2; Interface: Parallel CMOS; Resolution(Bits): 12; Sample Rate (max)(SPS): 500k; SFDR(dB): 78; SINAD(dB): 71; SubFamily: Precision ADC (<=10MSPS); DatasheetVersion: SBAS141A; PackageVersion: 4073176/B, 10/1996; PackageReference: PFB48; PackageDescription: 48-Pin Plastic Flat Pack, Body 7 x 7 mm, Pitch 0.5 mm; Supplier 1: Digi-Key; Supplier Part Number 1: ADS7862Y/250G4-ND; Supplier 2: Mouser; Supplier Part Number 2: 595-ADS7862Y/250G4; Digital Supply(Max)(V): 5.25; Digital Supply(Min)(V): 4.75; Eco-Plan: Green (RoHS & no Sb/Br); Mounting Technology: Surface Mount; Code_JEDEC: MS-026; ComponentLink1Description: Manufacturer URL; ComponentLink1URL: http://www.ti.com/; ComponentLink2Description: Datasheet; ComponentLink2URL: http://www.ti.com/general/docs/lit/getliterature.tsp?genericPartNumber=ADS7864&fileType=pdf; ComponentLink3Description: Package Specification; ComponentLink3URL: http://www.ti.com/lit/ml/mtqf019a/mtqf019a.pdf
footprint TI-PFB48_N (QFP, 48-Leads, Body 7x7mm, Pitch 0.5mm, IPC Medium Density)
footprint TI-PFB48_L (QFP, 48-Leads, Body 7x7mm, Pitch 0.5mm, IPC High Density)
footprint TI-PFB48_M (QFP, 48-Leads, Body 7x7mm, Pitch 0.5mm, IPC Low Density)
pins: 1 VA+ (power) "Analog Power Supply. Normally +5V.", 2 AGND (power) "Analog Ground", 3 DB15 (hiz) "Data Valid Output: ‘1’ for data valid; ‘0’ for invalid data.", 4 DB14 (hiz) "Channel Address Output Pin (see Table 2)", 5 DB13 (hiz) "Channel Address Output Pin (see Table 2)", 6 DB12 (hiz) "Channel Address Output Pin (see Table 2)", 7 DB11 (hiz) "Data Bit 11 - MSB", 8 DB10 (hiz) "Data Bit 10", 9 DB9 (hiz) "Data Bit 9", 10 DB8 (hiz) "Data Bit 8", 11 DB7 (hiz) "Data Bit 7", 12 DB6 (hiz) "Data Bit 6", 13 DB5 (hiz) "Data Bit 5", 14 DB4 (hiz) "Data Bit 4", 15 DB3 (hiz) "Data Bit 3", 16 DB2 (hiz) "Data Bit 2", 17 DB1 (hiz) "Data Bit 1", 18 DB0 (hiz) "Data Bit 0 - LSB", 19 ~{BUSY} (out) "Low when a conversion is in progress.", 20 DGND (power) "Digital Ground", 21 VD+ (power) "Digital Power Supply, +5VDC", 22 CLOCK (in) "An external clock must be applied to the CLOCK input.", 23 ~{RD} (in) "RD Input. Enables the parallel output when used in conjunction with chip select.", 24 ~{CS} (in) "Chip Select", 25 ~{HOLDC} (in) "Places Channels C0 and C1 in hold mode.", 26 ~{HOLDB} (in) "Places Channels B0 and B1 in hold mode.", 27 ~{HOLDA} (in) "Places Channels A0 and A1 in hold mode.", 28 BYTE (in) "2 x 8 Output Capability. Active high.", 29 A2 (in) "A2 Address/Mode Select Pin (see Table 3).", 30 A1 (in) "A1 Address/Mode Select Pin (see Table 3).", 31 A0 (in) "A0 Address/Mode Select Pin (see Table 3).", 32 ~{RESET} (in) "Reset Pin", 33 REFOUT (out) "Reference Out", 34 REFIN (in) "Reference In", 35 AGND (power) "Analog Ground", 36 VA+ (power) "Analog Power Supply. Normally +5V.", 37 CH A1+ (in) "Noninverting Input Channel A1", 38 CH A1- (in) "Inverting Input Channel A1", 39 CH B1+ (in) "Noninverting Input Channel B1", 40 CH B1- (in) "Inverting Input Channel B1", 41 CH C1+ (in) "Noninverting Input Channel C1", 42 CH C1- (in) "Inverting Input Channel C1", 43 CH C0- (in) "Inverting Input Channel C0", 44 CH C0+ (in) "Noninverting Input Channel C0", 45 CH B0- (in) "Inverting Input Channel B0", 46 CH B0+ (in) "Noninverting Input Channel B0", 47 CH A0- (in) "Inverting Input Channel A0", 48 CH A0+ (in) "Noninverting Input Channel A0"